# Altium schematic symbol library neom8t.SchLib: 1 symbol
Pins are listed as number, name and electrical type; pins without a type are passive.

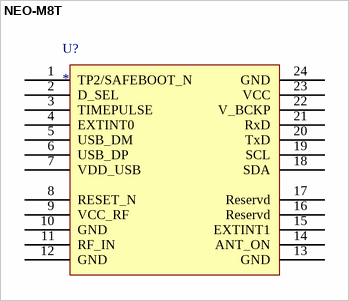
[diagram p0: symbol NEO-M8T]

## NEO-M8T
designator U?
footprint NEO (u-blox NEO GNSS module)
pins: 1 TP2/SAFEBOOT_N, 2 D_SEL, 3 TIMEPULSE, 4 EXTINT0, 5 USB_DM, 6 USB_DP, 7 VDD_USB, 8 RESET_N, 9 VCC_RF, 10 GND, 11 RF_IN, 12 GND, 13 GND, 14 ANT_ON, 15 EXTINT1, 16 Reservd, 17 Reservd, 18 SDA, 19 SCL, 20 TxD, 21 RxD, 22 V_BCKP, 23 VCC, 24 GND